# Altium footprint library light-pipe.PcbLib: 1 footprints
Each footprint in its own frame and in the unit in brackets; x right, y up, seen from the top. Pads: shape width x height; smd on the part's side, far side on the other; paste and mask are expansions set on the pad; w line width, h text height; cw(c..) or ccw(c..) is an arc to the next point about the centre after c.
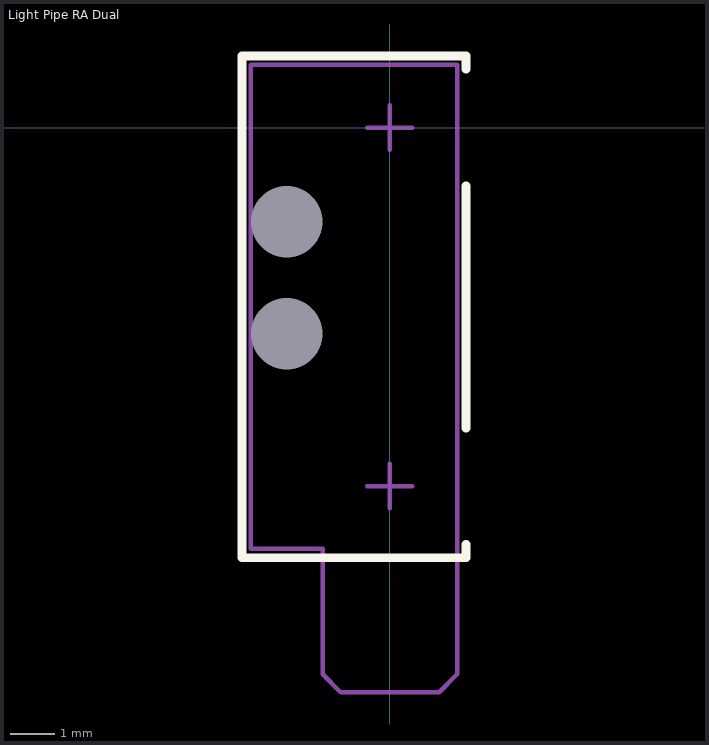
[diagram p0: the footprint, top view; thin cyan lines are the x and y axes]

## Light Pipe RA Dual [mm] "Light Pipe - Right Angle"
height 9.1
pads (2):
  round 0 hole 1.6 unplated: 0(-2.3,-4.6) 0(-2.3,-2.1)
Top Overlay:
  lines w0.2: 1.7,-9.3 1.7,-9.6 -3.3,-9.6 -3.3,1.6 1.7,1.6 1.7,1.3 ; 1.7,-6.7 1.7,-1.3
Mechanical 13:
  lines w0.1: -0.5,-8 0.5,-8 ; -0.5,0 0.5,0 ; 0,-8.5 0,-7.5 ; 0,-0.5 0,0.5 ; -3.1,-9.4 -1.5,-9.4 -1.5,-12.2 -1.1,-12.6 1.1,-12.6 1.5,-12.2 1.5,1.4 -3.1,1.4 -3.1,-9.4
3D body: height 9.16, standoff -2.78, extent -3.047,-12.76 1.525,1.21